# EAGLE library part STM32F103T (library GimbalStabilizer)
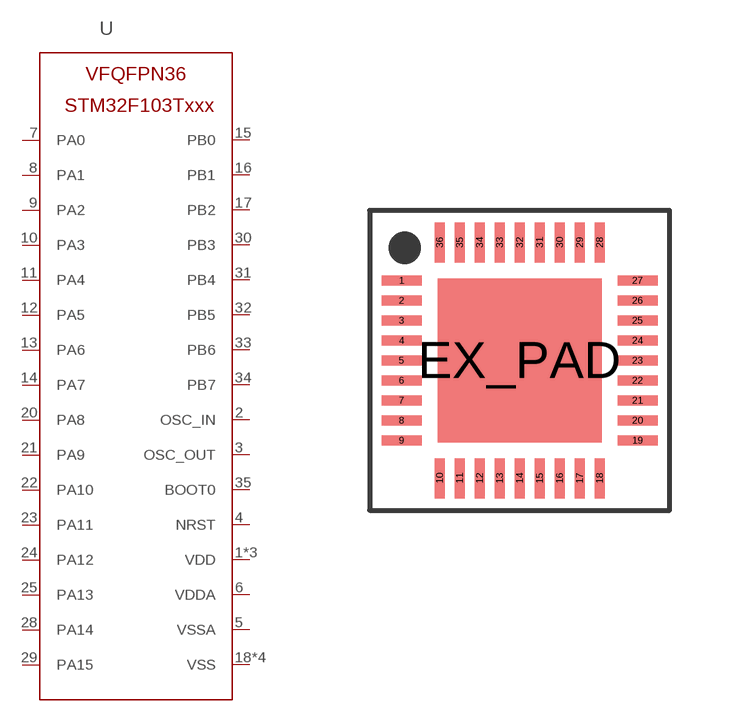
[diagram p3: symbol with the pads of VFQFPN36; footprint VFQFPN36]

Designator prefix U

## STM32F103TBU6  [VFQFPN36]
1  VDD
2  OSC_IN
3  OSC_OUT
4  NRST
5  VSSA
6  VDDA
7  PA0
8  PA1
9  PA2
10  PA3
11  PA4
12  PA5
13  PA6
14  PA7
15  PB0
16  PB1
17  PB2
18  VSS
19  VDD
20  PA8
21  PA9
22  PA10
23  PA11
24  PA12
25  PA13
26  VSS
27  VDD
28  PA14
29  PA15
30  PB3
31  PB4
32  PB5
33  PB6
34  PB7
35  BOOT0
36  VSS
EX_PAD  VSS

## Footprint VFQFPN36 (pad centres in mm)
smd 1 x 0.25: 1 -2.95,2; 2 -2.95,1.5; 3 -2.95,1; 4 -2.95,0.5; 5 -2.95,0; 6 -2.95,-0.5; 7 -2.95,-1; 8 -2.95,-1.5; 9 -2.95,-2; 19 2.95,-2; 20 2.95,-1.5; 21 2.95,-1; 22 2.95,-0.5; 23 2.95,0; 24 2.95,0.5; 25 2.95,1; 26 2.95,1.5; 27 2.95,2
smd 0.25 x 1: 10 -2,-2.95; 11 -1.5,-2.95; 12 -1,-2.95; 13 -0.5,-2.95; 14 0,-2.95; 15 0.5,-2.95; 16 1,-2.95; 17 1.5,-2.95; 18 2,-2.95; 28 2,2.95; 29 1.5,2.95; 30 1,2.95; 31 0.5,2.95; 32 0,2.95; 33 -0.5,2.95; 34 -1,2.95; 35 -1.5,2.95; 36 -2,2.95
smd 4.1 x 4.1: EX_PAD 0,0